# EAGLE library part AIR602 (library AIR602)
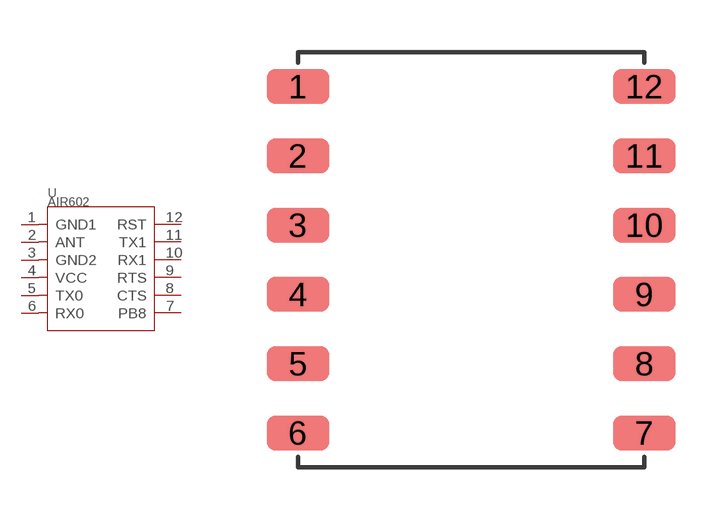
[diagram p0: symbol with the pads of MODULE12P-2.0-10X12MM; footprint MODULE12P-2.0-10X12MM]

Designator prefix U

## AIR602  [MODULE12P-2.0-10X12MM]
1  GND1
2  ANT
3  GND2
4  VCC
5  TX0
6  RX0
7  PB8
8  CTS
9  RTS
10  RX1
11  TX1
12  RST

## Footprint MODULE12P-2.0-10X12MM (pad centres in mm)
smd 1.8 x 1: 1 -5,5; 2 -5,3; 3 -5,1; 4 -5,-1; 5 -5,-3; 6 -5,-5; 7 5,-5; 8 5,-3; 9 5,-1; 10 5,1; 11 5,3; 12 5,5